# Altium schematic symbol library schematicLib.SchLib: 6 symbols
Pins are listed as number, name and electrical type; pins without a type are passive.

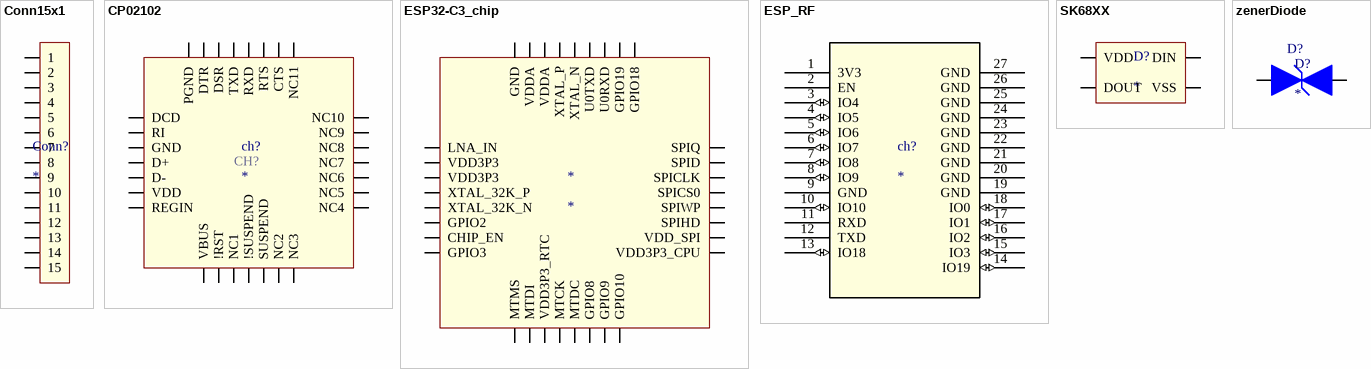
[diagram p0: symbols Conn15x1 to zenerDiode]

## Conn15x1
designator Conn?
footprint Conn15x1
pins: 1, 2, 3, 4, 5, 6, 7, 8, 9, 10, 11, 12, 13, 14, 15

## CP02102
designator ch?
footprint ESPchip
pins: 1 DCD, 2 RI, 3 GND, 4 D+, 5 D-, 6 VDD, 7 REGIN, 8 VBUS, 9 !RST, 10 NC1, 11 !SUSPEND, 12 SUSPEND, 13 NC2, 14 NC3, 15 NC4, 16 NC5, 17 NC6, 18 NC7, 19 NC8, 20 NC9, 21 NC10, 22 NC11, 23 CTS, 24 RTS, 25 RXD, 26 TXD, 27 DSR, 28 DTR, 29 PGND
text: CH?

## ESP32-C3_chip
designator *
pins: 1 LNA_IN, 2 VDD3P3, 3 VDD3P3, 4 XTAL_32K_P, 5 XTAL_32K_N, 6 GPIO2, 7 CHIP_EN, 8 GPIO3, 9 MTMS, 10 MTDI, 11 VDD3P3_RTC, 12 MTCK, 13 MTDC, 14 GPIO8, 15 GPIO9, 16 GPIO10, 17 VDD3P3_CPU, 18 VDD_SPI, 19 SPIHD, 20 SPIWP, 21 SPICS0, 22 SPICLK, 23 SPID, 24 SPIQ, 25 GPIO18, 26 U0RXD, 26 GPIO19, 27 U0TXD, 28 XTAL_N, 30 XTAL_P, 31 VDDA, 32 VDDA, 33 GND

## ESP_RF
designator ch?
footprint ESP_RF - duplicate
pins: 1 3V3, 2 EN, 3 IO4 (io), 4 IO5 (io), 5 IO6 (io), 6 IO7 (io), 7 IO8 (io), 8 IO9 (io), 9 GND (power), 10 IO10 (io), 11 RXD, 12 TXD, 13 IO18 (io), 14 IO19 (io), 15 IO3 (io), 16 IO2 (io), 17 IO1 (io), 18 IO0 (io), 19 GND (power), 20 GND (power), 21 GND (power), 22 GND (power), 23 GND (power), 24 GND (power), 25 GND (power), 26 GND (power), 27 GND (power)

## SK68XX
designator D?
footprint SD68XX
pins: 1 VSS, 2 DIN, 3 VDD, 4 DOUT

## zenerDiode
designator D?
footprint LESD5D5
pins: 1, 2